# Altium footprint library 662024230822.PcbLib: 1 footprints
Each footprint in its own frame and in the unit in brackets; x right, y up, seen from the top. Pads: shape width x height; smd on the part's side, far side on the other; paste and mask are expansions set on the pad; w line width, h text height; cw(c..) or ccw(c..) is an arc to the next point about the centre after c.
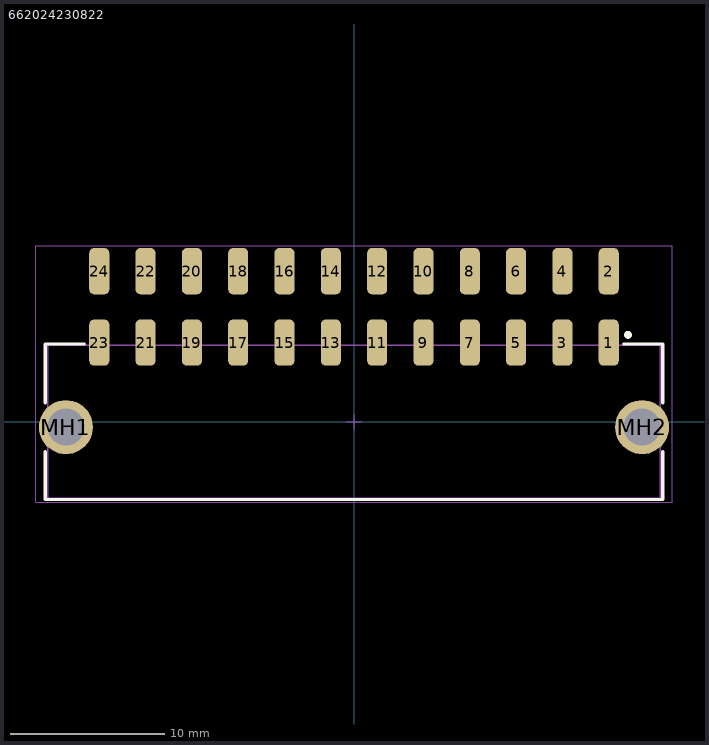
[diagram p0: the footprint, top view; thin cyan lines are the x and y axes]

## 662024230822 [mm] "Dual row SMT Right angle header With TH Metal Clip 24p"
height 8.76
pads (26):
  rrect50% 1.3x3 smd: 1(16.5,5.13) 2(16.5,9.75) 3(13.5,5.13) 4(13.5,9.75) 5(10.5,5.13) 6(10.5,9.75) 7(7.5,5.13) 8(7.5,9.75) 9(4.5,5.13) 10(4.5,9.75) 11(1.5,5.13) 12(1.5,9.75) 13(-1.5,5.13) 14(-1.5,9.75) 15(-4.5,5.13) 16(-4.5,9.75) 17(-7.5,5.13) 18(-7.5,9.75) 19(-10.5,5.13) 20(-10.5,9.75) 21(-13.5,5.13) 22(-13.5,9.75) 23(-16.5,5.13) 24(-16.5,9.75)
  round 3.5 hole 2.41: MH1(-18.66,-0.35) MH2(18.66,-0.35)
Top Overlay:
  circle w0.25: c17.75,5.625 r0.125
  lines w0.2: -20,-1.925 -20,-5.025 20,-5.025 20,-1.925 ; -20,1.225 -20,5.025 -17.45,5.025 ; 17.45,5.025 20,5.025 20,1.225
Top Assembly:
  lines w0.1: -19.85,-4.95 19.85,-4.95 19.85,4.95 -19.85,4.95 -19.85,-4.95
Top Courtyard:
  lines w0.05: -0.5,0 0.5,0 ; 0,-0.5 0,0.5 ; -20.61,-5.225 20.61,-5.225 20.61,11.41 -20.61,11.41 -20.61,-5.225
3D body "662024230822.stp": height 8.78, standoff -3.08, extent -19.85,-4.95 19.85,10.95